# Altium footprint library SLF10145T.PcbLib: 1 footprints
Each footprint in its own frame and in the unit in brackets; x right, y up, seen from the top. Pads: shape width x height; smd on the part's side, far side on the other; paste and mask are expansions set on the pad; w line width, h text height; cw(c..) or ccw(c..) is an arc to the next point about the centre after c.
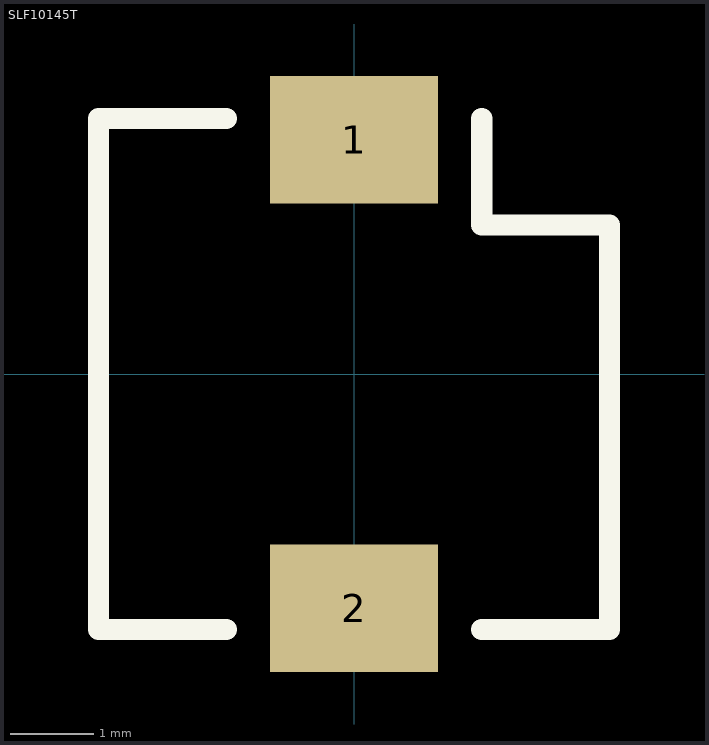
[diagram p0: the footprint, top view; thin cyan lines are the x and y axes]

## SLF10145T [mil]
pads (2):
  rect 79x60 smd: 1(0,110) 2(0,-110)
Top Overlay:
  lines w10: -60,-120 -120,-120 -120,120 -60,120 ; 60,-120 120,-120 120,70 60,70 60,120